# Altium footprint library NE5532P.PcbLib: 1 footprints
Each footprint in its own frame and in the unit in brackets; x right, y up, seen from the top. Pads: shape width x height; smd on the part's side, far side on the other; paste and mask are expansions set on the pad; w line width, h text height; cw(c..) or ccw(c..) is an arc to the next point about the centre after c.
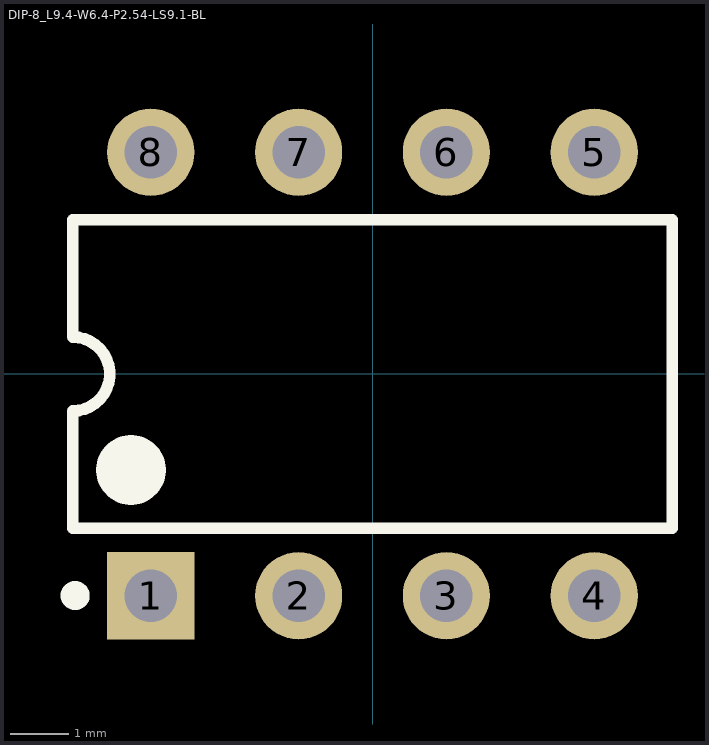
[diagram p0: the footprint, top view; thin cyan lines are the x and y axes]

## DIP-8_L9.4-W6.4-P2.54-LS9.1-BL [mm]
pads (8):
  rect 1.5x1.5 hole 0.9: 1(-3.81,-3.81)
  round 1.5 hole 0.9: 2(-1.27,-3.81) 3(1.27,-3.81) 4(3.81,-3.81) 5(3.81,3.81) 6(1.27,3.81) 7(-1.27,3.81) 8(-3.81,3.81)
Top Overlay:
  lines w0.2: -5.151,-0.635 ccw(c-5.151,0) -5.151,0.635 ; -5.15,-0.635 -5.15,-2.65 5.15,-2.65 5.15,2.65 -5.15,2.65 -5.15,0.635
  lines w0.25: -5.235,-3.81 ccw(c-5.11,-3.809) -5.235,-3.807
  lines w0.6: -4.45,-1.651 ccw(c-4.15,-1.648) -4.45,-1.646